# Altium footprint library transistor.PCBLIB: 57 footprints (part 2 of 4)
Each footprint in its own frame and in the unit in brackets; x right, y up, seen from the top. Pads: shape width x height; smd on the part's side, far side on the other; paste and mask are expansions set on the pad; w line width, h text height; cw(c..) or ccw(c..) is an arc to the next point about the centre after c.
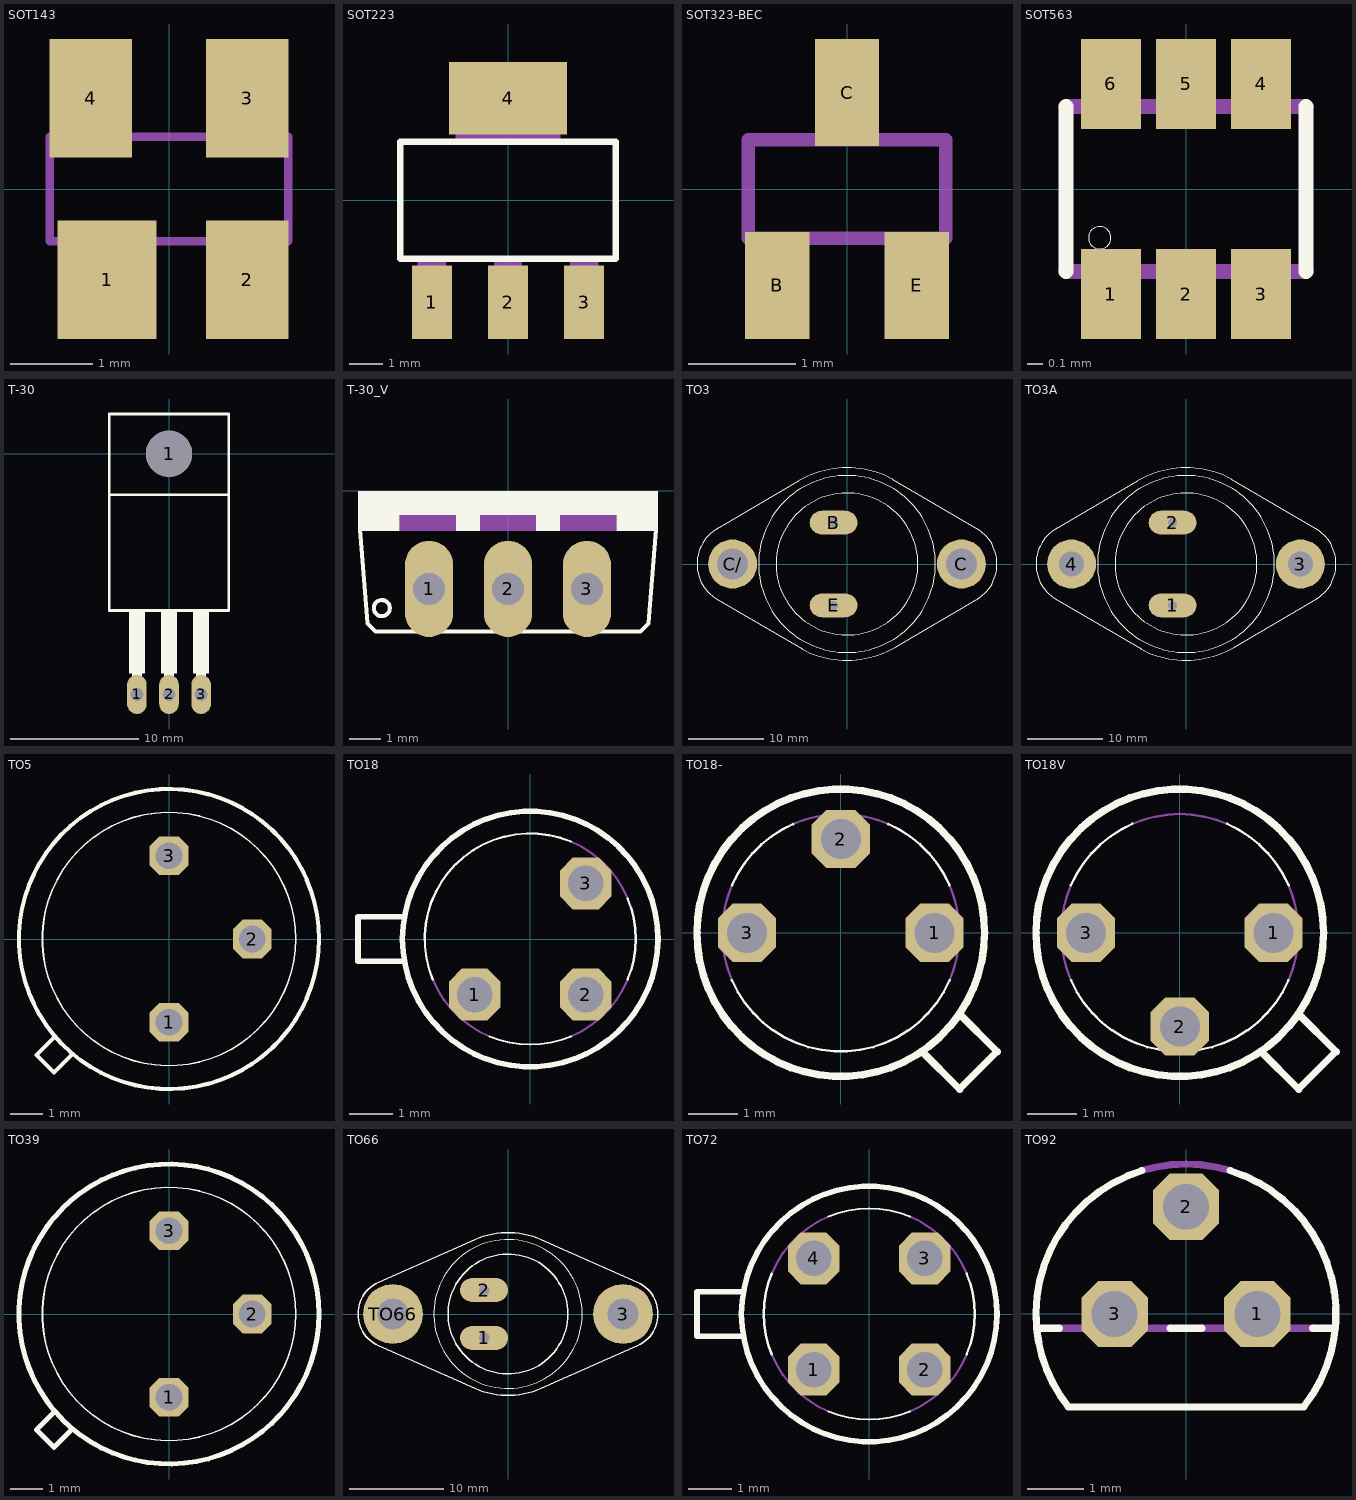
[diagram p1: the footprints below, top view; thin cyan lines are the x and y axes]

## SOT143 [mm]
pads (4):
  rect 1.2x1.44 smd: 1(-0.75,-1.1)
  rect 1x1.44 smd: 2(0.95,-1.1) 3(0.95,1.1) 4(-0.95,1.1)
Mechanical 4:
  rectangle: 0.737,-1.321 1.194,-0.635
  rectangle: 0.711,0.635 1.168,1.321
  rectangle: -1.143,0.635 -0.686,1.321
  rectangle: -1.194,-1.321 -0.305,-0.635
  lines w0.1: -1.448,-0.635 1.448,-0.635 1.448,0.635 -1.448,0.635 -1.448,-0.635

## SOT223 [mil]
pads (4):
  rect 48x88 smd: 1(-91,-122) 2(0,-122) 3(91,-122)
  rect 141.73x86.61 smd: 4(0,122.01)
Top Overlay:
  lines w8: -129,-70 -129,70 129,70 129,-70 -129,-70
Mechanical 4:
  rectangle: 74,-144 108,-71
  rectangle: -108,-144 -74,-71
  rectangle: -17,-144 17,-71
  rectangle: -63,71 63,144
  rectangle: 74,-144 108,-71
  rectangle: -108,-144 -74,-71
  rectangle: -17,-144 17,-71
  rectangle: -63,71 63,144

## SOT323-BEC [mm]
pads (3):
  rect 0.6x1 smd: B(-0.65,-0.9) C(0,0.9) E(0.65,-0.9)
Mechanical 4:
  rectangle: -0.8,-1.1 -0.5,-0.5
  rectangle: 0.5,-1.1 0.8,-0.5
  rectangle: -0.15,0.5 0.15,1.1
  lines w0.127: -0.923,-0.461 0.923,-0.461 0.923,0.461 -0.923,0.461 -0.923,-0.461

## SOT563 [mil]
pads (6):
  rect 15.75x23.62 smd: 1(-19.69,-27.56) 2(0,-27.56) 3(19.69,-27.56) 4(19.69,27.56) 5(0,27.56) 6(-19.69,27.56)
Top Overlay:
  circle w0: c-22.64,-12.8 r2.95
  lines w4: -31.5,-21.65 -31.5,21.65 ; 31.5,-21.65 31.5,21.65
Mechanical 4:
  region: -13.78,-21.65 -25.59,-21.65 -25.59,-33.46 -13.78,-33.46
  region: 5.91,-21.65 -5.91,-21.65 -5.91,-33.46 5.91,-33.46
  region: 25.59,-21.65 13.78,-21.65 13.78,-33.46 25.59,-33.46
  rectangle: 13.78,21.65 25.59,33.46
  rectangle: -5.91,21.65 5.91,33.46
  rectangle: -25.59,21.65 -13.78,33.46
  lines w4: -31.5,-21.65 31.5,-21.65 ; -31.5,21.65 31.5,21.65

## T-30 [mil]
pads (4):
  oval 60x120 hole 40: 1(-98.43,-737.6) 2(0,-737.6) 3(98.43,-737.6)
  round 141.73 hole 141.73: 1(0,0)
Top Overlay:
  rectangle: -123.03,-673.23 -73.82,-483.27
  rectangle: -24.61,-673.23 24.61,-483.27
  rectangle: 73.82,-673.23 123.03,-483.27
  lines w8: -183.07,-125.98 -183.07,-480.32 183.07,-480.32 183.07,-125.98 ; -183.07,-125.98 -183.07,122.05 183.07,122.05 183.07,-125.98 ; -183.07,-125.98 183.07,-125.98
  lines w31.5: -98.43,-737.4 -98.43,-665.55 ; 0,-737.4 0,-665.55 ; 98.43,-737.4 98.43,-665.55

## T-30_V [mil]
pads (3):
  oval 60x120 hole 40: 1(-98.43,-122.05) 2(0,-122.05) 3(98.43,-122.05)
Top Overlay:
  circle w5: c-157.32,-146 r10
  rectangle: -187.01,-30 187.01,0
  rectangle: -187.01,-50 -135,-30
  rectangle: -65,-50 -35,-30
  rectangle: 35,-50 65,-30
  rectangle: 135,-50 187.01,-30
  lines w5: -184.25,-47.95 -175.32,-164.92 -165.32,-174.92 165.32,-174.92 175.32,-164.92 184.25,-47.95
Mechanical 4:
  rectangle: -135,-50 -65,-30
  rectangle: -35,-50 35,-30
  rectangle: 65,-50 135,-30

## TO3 [mil]
pads (4):
  oval 248x124 hole 47: B(-70,215) E(-70,-215)
  round 255 hole 162: C(595,0) C/(-595,0)
Top Overlay:
  circle w6: c0,0 r369
  circle w2: c0,0 r460
  lines w6: -680,180 -250,433 ; -679,-181 -234,-442 ; -675.41,-183.35 cw(c-567,0) -780,0 cw(c-567,0) -672.94,184.78 ; -250.86,432.52 cw(c-0.01,0) 0,500 cw(c0.01,-0.01) 235.3,441.18 ; -235.3,-441.18 ccw(c-0.01,0.01) 0,-500 ccw(c0.01,0) 250.86,-432.52 ; 235,441 684,178 ; 251,-433 684,-178 ; 682.54,-178.94 ccw(c567,0) 780,0 ccw(c567,0) 682.54,178.94
Mechanical 4:
  circle w6: c595,0 r85
  circle w6: c-595,0 r85

## TO3A [mil]
pads (4):
  oval 248x124 hole 47: 1(-70,-215) 2(-70,215)
  round 255 hole 130: 3(595,0) 4(-595,0)
Top Overlay:
  circle w5: c0,0 r369
  circle w2: c0,0 r460
  lines w5: -680,180 -250,433 ; -679,-181 -234,-442 ; -675.41,-183.35 cw(c-567,0) -780,0 cw(c-567,0) -672.94,184.78 ; -250.86,432.52 cw(c-0.01,0) 0,500 cw(c0.01,-0.01) 235.3,441.18 ; -235.3,-441.18 ccw(c-0.01,0.01) 0,-500 ccw(c0.01,0) 250.86,-432.52 ; 235,441 684,178 ; 251,-433 684,-178 ; 682.54,-178.94 ccw(c567,0) 780,0 ccw(c567,0) 682.54,178.94
Mechanical 4:
  circle w5: c595,0 r85
  circle w5: c-595,0 r85

## TO5 [mil]
pads (3):
  oct 46.48x46.48 hole 32: 1(0,-100) 2(100,0) 3(0,100)
Top Overlay:
  circle w5: c0,0 r180
  circle w2: c0,0 r152
  lines w5: -138,-118 -159,-139 -138,-160 -117,-139

## TO18 [mil]
pads (3):
  oct 46.48x46.48 hole 32: 1(-50,-50) 2(50,-50) 3(50,50)
Top Overlay:
  circle w5: c0,0 r115
  lines w2: -87.68,-36.57 cw(c0,0) 36.57,87.68 ; -36.57,-87.68 ccw(c0,0) 36.57,-87.68 ; 87.68,-36.57 ccw(c0,0) 87.68,36.57
  lines w5: -113.25,-20 -155,-20 -155,20 -113.25,20
Mechanical 4:
  lines w2: -87.68,-36.57 ccw(c0,0) -36.57,-87.68 ; 36.57,-87.68 ccw(c0,0) 87.68,-36.57 ; 36.57,87.68 cw(c0,0) 87.68,36.57

## TO18- [mil]
pads (3):
  oct 46.48x46.48 hole 32: 1(75,0) 2(0,75) 3(-75,0)
Top Overlay:
  circle w6: c0,0 r115
  lines w2: -87,-38.16 ccw(c0,0) 87,-38.16 ; -87,38.16 cw(c0,0) -38.16,87 ; 38.16,87 cw(c0,0) 87,38.16
  lines w6: 64.92,-94.92 95,-125 125,-95 94.92,-64.92
Mechanical 4:
  lines w2: -87,-38.16 cw(c0.01,0) -87,38.16 ; -38.16,87 cw(c0,-0.01) 38.16,87 ; 87,-38.16 ccw(c-0.01,0) 87,38.16

## TO18V [mil]
pads (3):
  oct 46.48x46.48 hole 32: 1(75,0) 2(0,-75) 3(-75,0)
Top Overlay:
  circle w6: c0,0 r115
  lines w2: -87,-38.16 ccw(c0,0) 87,-38.16 ; -87,38.16 cw(c0,0) -38.16,87 ; 38.16,87 cw(c0,0) 87,38.16
  lines w6: 64.92,-94.92 95,-125 125,-95 94.92,-64.92
Mechanical 4:
  lines w2: -87,-38.16 cw(c0,0) -87,38.16 ; -38.16,87 cw(c0,0) 38.16,87 ; 87,-38.16 ccw(c0,0) 87,38.16

## TO39 [mil]
pads (3):
  oct 46.48x46.48 hole 32: 1(0,-100) 2(100,0) 3(0,100)
Top Overlay:
  circle w6: c0,0 r180
  circle w2: c0,0 r152
  lines w6: -138,-118 -159,-139 -138,-160 -117,-139

## TO66 [mil]
pads (4):
  oval 200x100 hole 44: 1(-100,-100) 2(-100,100)
  round 250 hole 130: 3(480,0) TO66(-480,0)
Top Overlay:
  circle w2: c0,0 r310
  circle w6: c0,0 r250
  lines w6: -539.8,-132.56 cw(c-481.02,-0.01) -539.8,132.54 -137.83,310.83 cw(c0.01,0.03) 137.84,310.83 539.8,132.56 cw(c481.02,-0.01) 539.8,-132.56 137.83,-310.83 cw(c0.01,-0.03) -137.83,-310.83 -539.8,-132.56
Mechanical 4:
  circle w6: c-480,0 r75
  circle w6: c480,0 r75

## TO72 [mil]
pads (4):
  oct 46.48x46.48 hole 32: 1(-50,-50) 2(50,-50) 3(50,50) 4(-50,50)
Top Overlay:
  circle w5: c0,0 r115
  lines w2: -87.68,-36.57 cw(c0,0) -87.68,36.57 ; -36.57,-87.68 ccw(c0,0) 36.57,-87.68 ; -36.57,87.68 cw(c0,0) 36.57,87.68 ; 87.68,-36.57 ccw(c0,0) 87.68,36.57
  lines w5: -114,-20 -155,-20 -155,20 -114,20
Mechanical 4:
  lines w2: -87.68,-36.57 ccw(c0,0) -36.57,-87.68 ; -87.68,36.57 cw(c0,0) -36.57,87.68 ; 36.57,-87.68 ccw(c0,0) 87.68,-36.57 ; 36.57,87.68 cw(c0,0) 87.68,36.57

## TO92 [mil]
pads (3):
  oct 46.48x46.48 hole 32: 1(50,0) 2(0,75) 3(-50,0)
Top Overlay:
  lines w5: -88.73,-10 -104.52,-10 ; -30.96,100.33 ccw(c0,0) -104.52,-10 ; -11.27,-10 11.27,-10 ; 30.96,100.33 cw(c0,0) 82.46,-65 -82.46,-65 cw(c0,0) -104.52,-10 ; 88.73,-10 104.52,-10
Mechanical 4:
  lines w5: -88.73,-10 -11.27,-10 ; -30.96,100.33 cw(c0,-0.02) 30.96,100.33 ; 11.27,-10 88.73,-10